# EAGLE library part CAT93C46 (library RASEagleLib)
CAT93C46 EEPROM - Serial (128x8)/(64x16) 1K
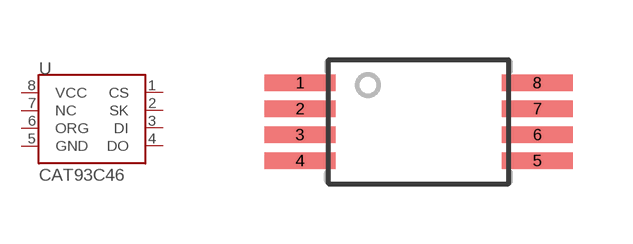
[diagram p5: symbol with the pads of TSSOP-8; footprint TSSOP-8]

Designator prefix U

## CAT93C46  [TSSOP-8]
1  CS
2  SK
3  DI
4  DO
5  GND
6  ORG
7  NC
8  VCC

## Footprint TSSOP-8 (pad centres in mm)
smd 1.78 x 0.42: 1 -2.97,0.975; 2 -2.97,0.325; 3 -2.97,-0.325; 4 -2.97,-0.975; 5 2.97,-0.975; 6 2.97,-0.325; 7 2.97,0.325; 8 2.97,0.975